# Altium footprint library SmartScale_PcbLib1.PcbLib: 51 footprints (part 1 of 4)
Each footprint in its own frame and in the unit in brackets; x right, y up, seen from the top. Pads: shape width x height; smd on the part's side, far side on the other; paste and mask are expansions set on the pad; w line width, h text height; cw(c..) or ccw(c..) is an arc to the next point about the centre after c.
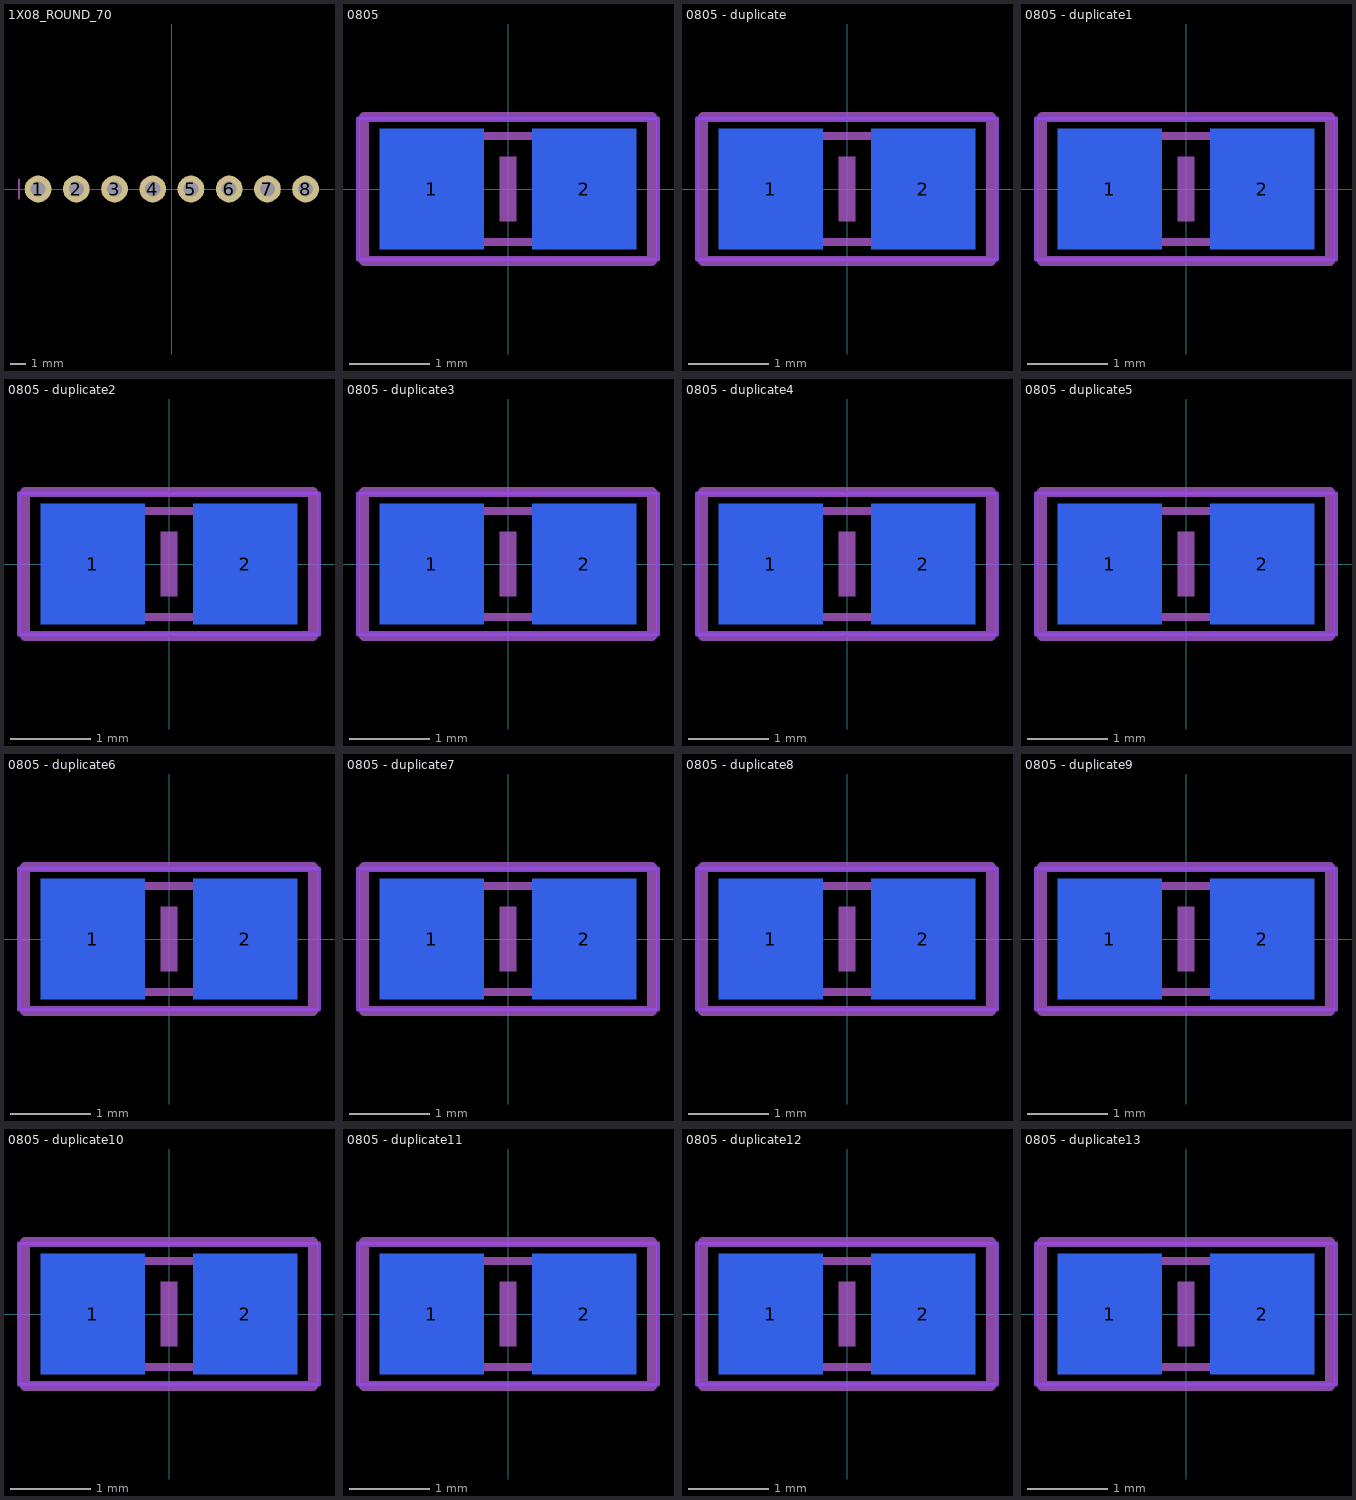
[diagram p0: the footprints below, top view; thin cyan lines are the x and y axes]

## 1X08_ROUND_70 [mil] "1X08_ROUND_70"
pads (8):
  round 70 hole 39.37: 1(-350,0) 2(-250,0) 3(-150,0) 4(-50,0) 5(50,0) 6(150,0) 7(250,0) 8(350,0)
Mechanical 3:
  region: 240,-10 240,10 260,10 260,-10
  region: 140,-10 140,10 160,10 160,-10
  region: 40,-10 40,10 60,10 60,-10
  region: -60,-10 -60,10 -40,10 -40,-10
  region: -160,-10 -160,10 -140,10 -140,-10
  region: -260,-10 -260,10 -240,10 -240,-10
  region: -360,-10 -360,10 -340,10 -340,-10
  region: 340,-10 340,10 360,10 360,-10
  lines w6: -400,-25 -400,25

## 0805 [mm] "0805"
pads (2):
  rect 1.3x1.5 smd far side: 1(-0.95,0) 2(0.95,0)
Bottom Layer keep-out:
  lines w0.051: -1.873,-0.883 1.873,-0.883 1.873,0.883 -1.873,0.883 -1.873,-0.883
Mechanical 4:
  region: -1.092,0.724 -1.092,-0.726 -0.342,-0.726 -0.342,0.724
  region: 0.356,0.724 0.356,-0.726 1.106,-0.726 1.106,0.724
  lines w0.102: -0.381,-0.66 0.381,-0.66 ; -0.356,0.66 0.381,0.66
Mechanical 8:
  lines w0.127: -1.8,-0.9 -1.8,0.9 1.8,0.9 1.8,-0.9 -1.8,-0.9
Top Glue Points:
  region: -0.1,0.4 -0.1,-0.4 0.1,-0.4 0.1,0.4

## 0805 - duplicate [mm] "0805"
pads (2):
  rect 1.3x1.5 smd far side: 1(-0.95,0) 2(0.95,0)
Bottom Layer keep-out:
  lines w0.051: -1.873,-0.883 1.873,-0.883 1.873,0.883 -1.873,0.883 -1.873,-0.883
Mechanical 4:
  region: -1.092,0.724 -1.092,-0.726 -0.342,-0.726 -0.342,0.724
  region: 0.356,0.724 0.356,-0.726 1.106,-0.726 1.106,0.724
  lines w0.102: -0.381,-0.66 0.381,-0.66 ; -0.356,0.66 0.381,0.66
Mechanical 8:
  lines w0.127: -1.8,-0.9 -1.8,0.9 1.8,0.9 1.8,-0.9 -1.8,-0.9
Top Glue Points:
  region: -0.1,0.4 -0.1,-0.4 0.1,-0.4 0.1,0.4

## 0805 - duplicate1 [mm] "0805"
pads (2):
  rect 1.3x1.5 smd far side: 1(-0.95,0) 2(0.95,0)
Bottom Layer keep-out:
  lines w0.051: -1.873,-0.883 1.873,-0.883 1.873,0.883 -1.873,0.883 -1.873,-0.883
Mechanical 4:
  region: -1.092,0.724 -1.092,-0.726 -0.342,-0.726 -0.342,0.724
  region: 0.356,0.724 0.356,-0.726 1.106,-0.726 1.106,0.724
  lines w0.102: -0.381,-0.66 0.381,-0.66 ; -0.356,0.66 0.381,0.66
Mechanical 8:
  lines w0.127: -1.8,-0.9 -1.8,0.9 1.8,0.9 1.8,-0.9 -1.8,-0.9
Top Glue Points:
  region: -0.1,0.4 -0.1,-0.4 0.1,-0.4 0.1,0.4

## 0805 - duplicate2 [mm] "0805"
pads (2):
  rect 1.3x1.5 smd far side: 1(-0.95,0) 2(0.95,0)
Bottom Layer keep-out:
  lines w0.051: -1.873,-0.883 1.873,-0.883 1.873,0.883 -1.873,0.883 -1.873,-0.883
Mechanical 4:
  region: -1.092,0.724 -1.092,-0.726 -0.342,-0.726 -0.342,0.724
  region: 0.356,0.724 0.356,-0.726 1.106,-0.726 1.106,0.724
  lines w0.102: -0.381,-0.66 0.381,-0.66 ; -0.356,0.66 0.381,0.66
Mechanical 8:
  lines w0.127: -1.8,-0.9 -1.8,0.9 1.8,0.9 1.8,-0.9 -1.8,-0.9
Top Glue Points:
  region: -0.1,0.4 -0.1,-0.4 0.1,-0.4 0.1,0.4

## 0805 - duplicate3 [mm] "0805"
pads (2):
  rect 1.3x1.5 smd far side: 1(-0.95,0) 2(0.95,0)
Bottom Layer keep-out:
  lines w0.051: -1.873,-0.883 -1.873,0.883 1.873,0.883 1.873,-0.883 -1.873,-0.883
Mechanical 4:
  region: 0.356,0.724 0.356,-0.726 1.106,-0.726 1.106,0.724
  region: -1.092,0.724 -1.092,-0.726 -0.342,-0.726 -0.342,0.724
  lines w0.102: -0.381,-0.66 0.381,-0.66 ; -0.356,0.66 0.381,0.66
Mechanical 8:
  lines w0.127: -1.8,-0.9 1.8,-0.9 1.8,0.9 -1.8,0.9 -1.8,-0.9
Top Glue Points:
  region: -0.1,0.4 -0.1,-0.4 0.1,-0.4 0.1,0.4

## 0805 - duplicate4 [mm] "0805"
pads (2):
  rect 1.3x1.5 smd far side: 1(-0.95,0) 2(0.95,0)
Bottom Layer keep-out:
  lines w0.051: -1.873,-0.883 -1.873,0.883 1.873,0.883 1.873,-0.883 -1.873,-0.883
Mechanical 4:
  region: 0.356,0.724 0.356,-0.726 1.106,-0.726 1.106,0.724
  region: -1.092,0.724 -1.092,-0.726 -0.342,-0.726 -0.342,0.724
  lines w0.102: -0.381,-0.66 0.381,-0.66 ; -0.356,0.66 0.381,0.66
Mechanical 8:
  lines w0.127: -1.8,-0.9 1.8,-0.9 1.8,0.9 -1.8,0.9 -1.8,-0.9
Top Glue Points:
  region: -0.1,0.4 -0.1,-0.4 0.1,-0.4 0.1,0.4

## 0805 - duplicate5 [mm] "0805"
pads (2):
  rect 1.3x1.5 smd far side: 1(-0.95,0) 2(0.95,0)
Bottom Layer keep-out:
  lines w0.051: -1.873,-0.883 -1.873,0.883 1.873,0.883 1.873,-0.883 -1.873,-0.883
Mechanical 4:
  region: 0.356,0.724 0.356,-0.726 1.106,-0.726 1.106,0.724
  region: -1.092,0.724 -1.092,-0.726 -0.342,-0.726 -0.342,0.724
  lines w0.102: -0.381,-0.66 0.381,-0.66 ; -0.356,0.66 0.381,0.66
Mechanical 8:
  lines w0.127: -1.8,-0.9 1.8,-0.9 1.8,0.9 -1.8,0.9 -1.8,-0.9
Top Glue Points:
  region: -0.1,0.4 -0.1,-0.4 0.1,-0.4 0.1,0.4

## 0805 - duplicate6 [mm] "0805"
pads (2):
  rect 1.3x1.5 smd far side: 1(-0.95,0) 2(0.95,0)
Bottom Layer keep-out:
  lines w0.051: -1.873,-0.883 -1.873,0.883 1.873,0.883 1.873,-0.883 -1.873,-0.883
Mechanical 4:
  region: 0.356,0.724 0.356,-0.726 1.106,-0.726 1.106,0.724
  region: -1.092,0.724 -1.092,-0.726 -0.342,-0.726 -0.342,0.724
  lines w0.102: -0.381,-0.66 0.381,-0.66 ; -0.356,0.66 0.381,0.66
Mechanical 8:
  lines w0.127: -1.8,-0.9 1.8,-0.9 1.8,0.9 -1.8,0.9 -1.8,-0.9
Top Glue Points:
  region: -0.1,0.4 -0.1,-0.4 0.1,-0.4 0.1,0.4

## 0805 - duplicate7 [mm] "0805"
pads (2):
  rect 1.3x1.5 smd far side: 1(-0.95,0) 2(0.95,0)
Bottom Layer keep-out:
  lines w0.051: -1.873,-0.883 -1.873,0.883 1.873,0.883 1.873,-0.883 -1.873,-0.883
Mechanical 4:
  region: 0.356,0.724 0.356,-0.726 1.106,-0.726 1.106,0.724
  region: -1.092,0.724 -1.092,-0.726 -0.342,-0.726 -0.342,0.724
  lines w0.102: -0.381,-0.66 0.381,-0.66 ; -0.356,0.66 0.381,0.66
Mechanical 8:
  lines w0.127: -1.8,-0.9 1.8,-0.9 1.8,0.9 -1.8,0.9 -1.8,-0.9
Top Glue Points:
  region: -0.1,0.4 -0.1,-0.4 0.1,-0.4 0.1,0.4

## 0805 - duplicate8 [mm] "0805"
pads (2):
  rect 1.3x1.5 smd far side: 1(-0.95,0) 2(0.95,0)
Bottom Layer keep-out:
  lines w0.051: -1.873,-0.883 -1.873,0.883 1.873,0.883 1.873,-0.883 -1.873,-0.883
Mechanical 4:
  region: 0.356,0.724 0.356,-0.726 1.106,-0.726 1.106,0.724
  region: -1.092,0.724 -1.092,-0.726 -0.342,-0.726 -0.342,0.724
  lines w0.102: -0.381,-0.66 0.381,-0.66 ; -0.356,0.66 0.381,0.66
Mechanical 8:
  lines w0.127: -1.8,-0.9 1.8,-0.9 1.8,0.9 -1.8,0.9 -1.8,-0.9
Top Glue Points:
  region: -0.1,0.4 -0.1,-0.4 0.1,-0.4 0.1,0.4

## 0805 - duplicate9 [mm] "0805"
pads (2):
  rect 1.3x1.5 smd far side: 1(-0.95,0) 2(0.95,0)
Bottom Layer keep-out:
  lines w0.051: -1.873,-0.883 -1.873,0.883 1.873,0.883 1.873,-0.883 -1.873,-0.883
Mechanical 4:
  region: 0.356,0.724 0.356,-0.726 1.106,-0.726 1.106,0.724
  region: -1.092,0.724 -1.092,-0.726 -0.342,-0.726 -0.342,0.724
  lines w0.102: -0.381,-0.66 0.381,-0.66 ; -0.356,0.66 0.381,0.66
Mechanical 8:
  lines w0.127: -1.8,-0.9 1.8,-0.9 1.8,0.9 -1.8,0.9 -1.8,-0.9
Top Glue Points:
  region: -0.1,0.4 -0.1,-0.4 0.1,-0.4 0.1,0.4

## 0805 - duplicate10 [mm] "0805"
pads (2):
  rect 1.3x1.5 smd far side: 1(-0.95,0) 2(0.95,0)
Bottom Layer keep-out:
  lines w0.051: -1.873,-0.883 -1.873,0.883 1.873,0.883 1.873,-0.883 -1.873,-0.883
Mechanical 4:
  region: 0.356,0.724 0.356,-0.726 1.106,-0.726 1.106,0.724
  region: -1.092,0.724 -1.092,-0.726 -0.342,-0.726 -0.342,0.724
  lines w0.102: -0.381,-0.66 0.381,-0.66 ; -0.356,0.66 0.381,0.66
Mechanical 8:
  lines w0.127: -1.8,-0.9 1.8,-0.9 1.8,0.9 -1.8,0.9 -1.8,-0.9
Top Glue Points:
  region: -0.1,0.4 -0.1,-0.4 0.1,-0.4 0.1,0.4

## 0805 - duplicate11 [mm] "0805"
pads (2):
  rect 1.3x1.5 smd far side: 1(-0.95,0) 2(0.95,0)
Bottom Layer keep-out:
  lines w0.051: -1.873,-0.883 -1.873,0.883 1.873,0.883 1.873,-0.883 -1.873,-0.883
Mechanical 4:
  region: 0.356,0.724 0.356,-0.726 1.106,-0.726 1.106,0.724
  region: -1.092,0.724 -1.092,-0.726 -0.342,-0.726 -0.342,0.724
  lines w0.102: -0.381,-0.66 0.381,-0.66 ; -0.356,0.66 0.381,0.66
Mechanical 8:
  lines w0.127: -1.8,-0.9 1.8,-0.9 1.8,0.9 -1.8,0.9 -1.8,-0.9
Top Glue Points:
  region: -0.1,0.4 -0.1,-0.4 0.1,-0.4 0.1,0.4

## 0805 - duplicate12 [mm] "0805"
pads (2):
  rect 1.3x1.5 smd far side: 1(-0.95,0) 2(0.95,0)
Bottom Layer keep-out:
  lines w0.051: -1.873,-0.883 -1.873,0.883 1.873,0.883 1.873,-0.883 -1.873,-0.883
Mechanical 4:
  region: 0.356,0.724 0.356,-0.726 1.106,-0.726 1.106,0.724
  region: -1.092,0.724 -1.092,-0.726 -0.342,-0.726 -0.342,0.724
  lines w0.102: -0.381,-0.66 0.381,-0.66 ; -0.356,0.66 0.381,0.66
Mechanical 8:
  lines w0.127: -1.8,-0.9 1.8,-0.9 1.8,0.9 -1.8,0.9 -1.8,-0.9
Top Glue Points:
  region: -0.1,0.4 -0.1,-0.4 0.1,-0.4 0.1,0.4

## 0805 - duplicate13 [mm] "0805"
pads (2):
  rect 1.3x1.5 smd far side: 1(-0.95,0) 2(0.95,0)
Bottom Layer keep-out:
  lines w0.051: -1.873,-0.883 -1.873,0.883 1.873,0.883 1.873,-0.883 -1.873,-0.883
Mechanical 4:
  region: 0.356,0.724 0.356,-0.726 1.106,-0.726 1.106,0.724
  region: -1.092,0.724 -1.092,-0.726 -0.342,-0.726 -0.342,0.724
  lines w0.102: -0.381,-0.66 0.381,-0.66 ; -0.356,0.66 0.381,0.66
Mechanical 8:
  lines w0.127: -1.8,-0.9 1.8,-0.9 1.8,0.9 -1.8,0.9 -1.8,-0.9
Top Glue Points:
  region: -0.1,0.4 -0.1,-0.4 0.1,-0.4 0.1,0.4